# Altium schematic symbol library MV-LED.SchLib: 10 symbols
Pins are listed as number, name and electrical type; pins without a type are passive.

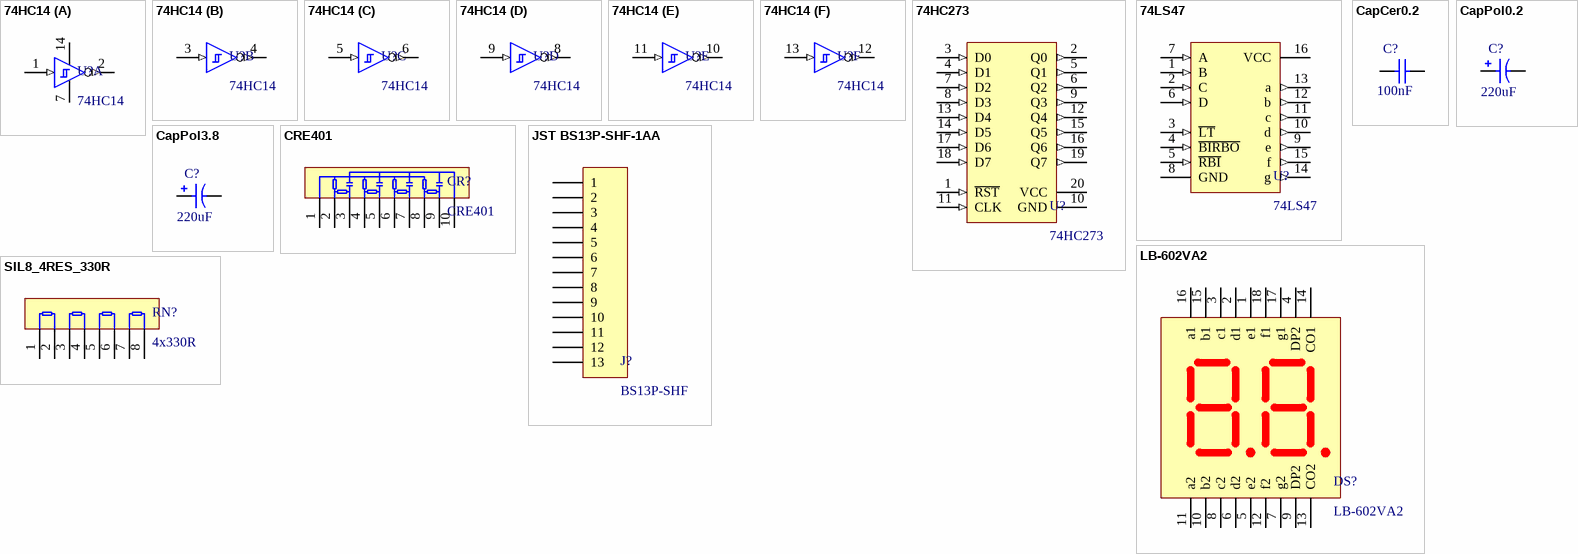
[diagram p0: symbols 74HC14 to SIL8_4RES_330R]

## 74HC14
designator U?
Hex Schmitt-Trigger Inverters
footprint DIP14
part A pins: 1 1A (in), 2 1Y (out), 7 GND (power), 14 VCC (power)
part B pins: 3 2A (in), 4 2Y (out)
part C pins: 5 3A (in), 6 3Y (out)
part D pins: 8 4Y (out), 9 4A (in)
part E pins: 10 5Y (out), 11 5A (in)
part F pins: 12 6Y (out), 13 6A (in)

## 74HC273
designator U?
Octal D Type FLIP-FLOP with Clear,
footprint DIP20
pins: 1 ~{RST} (in), 2 Q0 (out), 3 D0 (in), 4 D1 (in), 5 Q1 (out), 6 Q2 (out), 7 D2 (in), 8 D3 (in), 9 Q3 (out), 10 GND (power), 11 CLK (in), 12 Q4 (out), 13 D4 (in), 14 D5 (in), 15 Q5 (out), 16 Q6 (out), 17 D6 (in), 18 D7 (in), 19 Q7 (out), 20 VCC (power)

## 74LS47
designator U?
BCD-to-Seven-Segment Decoder/Driver
footprint DIP16
pins: 1 B (in), 2 C (in), 3 ~{LT} (in), 4 ~{BIRBO} (in), 5 ~{RBI} (in), 6 D (in), 7 A (in), 8 GND (power), 9 e (out), 10 d (out), 11 c (out), 12 b (out), 13 a (out), 14 g (out), 15 f (out), 16 VCC (power)

## CapCer0.2
designator C?  value 100nF  (hidden comment: CapCer0.2)
Capacitor (THT), Ceramic, 5,08mm Pitch
footprint CapCer0.2
pins: 1, 2
1 alternate drawing of the same symbol

## CapPol0.2
designator C?  value 220uF  (hidden comment: CapPol0.2)
Polarized Capacitor, 5.08mm Pitch, 8mm Width
footprint CapPol0.2_RA
pins: 1, 2
1 alternate drawing of the same symbol

## CapPol3.8
designator C?  value 220uF  (hidden comment: CapPol3.8)
Polarized Capacitor, 3.8mm Pitch, 8mm Width
footprint CapPol3.8_RA
pins: 1, 2
1 alternate drawing of the same symbol

## CRE401
designator CR?
RRC Array
footprint SIP10
pins: 1, 2, 3, 4, 5, 6, 7, 8, 9, 10

## JST BS13P-SHF-1AA
designator J?, comment BS13P-SHF
JST HVQ Series, 2.5mm Pitch 13 Way 1 Row Right Angle PCB Header THT; Pitch: 2.54mm
footprint JST BS13P-SHF-1AA
pins: 1, 2, 3, 4, 5, 6, 7, 8, 9, 10, 11, 12, 13

## LB-602VA2
designator DS?
Double Digits LED Numeric Display
footprint LB-602VA2 (Double Digits LED Numeric Display)
pins: 1 e1, 2 d1, 3 c1, 4 DP2, 5 e2, 6 d2, 7 g2, 8 c2, 9 DP2, 10 b2, 11 a2, 12 f2, 13 CO2, 14 CO1, 15 b1, 16 a1, 17 g1, 18 f1

## SIL8_4RES_330R
designator RN?, comment 4x330R
Parallel Resistor Network 4x330R
footprint SIP8
pins: 1, 2, 3, 4, 5, 6, 7, 8